# EAGLE library part ADAFRUIT_LCD_CONTROLLER (library UBCSolar)
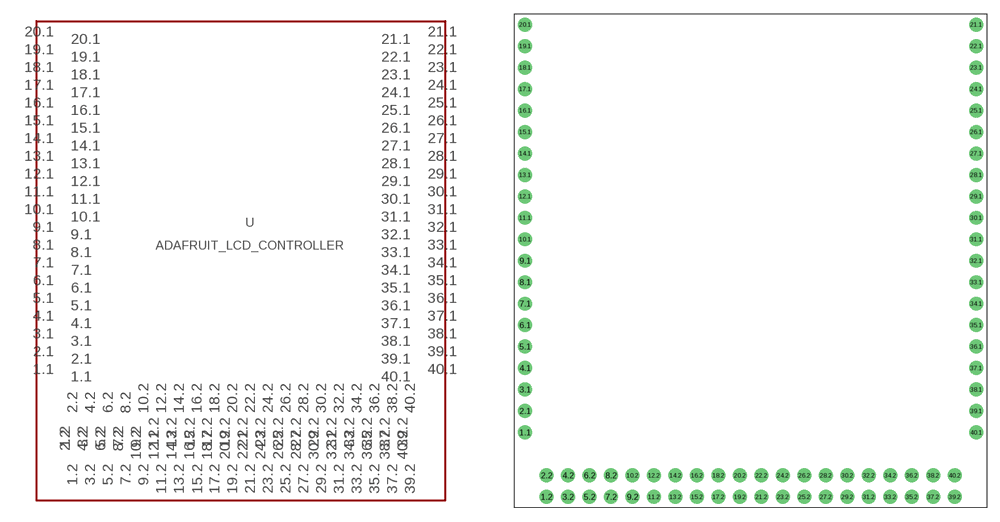
[diagram p17: symbol with the pads of ADAFRUIT_LCD_CONTROLLER; footprint ADAFRUIT_LCD_CONTROLLER]

Designator prefix -

## ADAFRUIT_LCD_CONTROLLER  [ADAFRUIT_LCD_CONTROLLER]
1.1  1.1
1.2  1.2
2.1  2.1
2.2  2.2
3.1  3.1
3.2  3.2
4.1  4.1
4.2  4.2
5.1  5.1
5.2  5.2
6.1  6.1
6.2  6.2
7.1  7.1
7.2  7.2
8.1  8.1
8.2  8.2
9.1  9.1
9.2  9.2
10.1  10.1
10.2  10.2
11.1  11.1
11.2  11.2
12.1  12.1
12.2  12.2
13.1  13.1
13.2  13.2
14.1  14.1
14.2  14.2
15.1  15.1
15.2  15.2
16.1  16.1
16.2  16.2
17.1  17.1
17.2  17.2
18.1  18.1
18.2  18.2
19.1  19.1
19.2  19.2
20.1  20.1
20.2  20.2
21.1  21.1
21.2  21.2
22.1  22.1
22.2  22.2
23.1  23.1
23.2  23.2
24.1  24.1
24.2  24.2
25.1  25.1
25.2  25.2
26.1  26.1
26.2  26.2
27.1  27.1
27.2  27.2
28.1  28.1
28.2  28.2
29.1  29.1
29.2  29.2
30.1  30.1
30.2  30.2
31.1  31.1
31.2  31.2
32.1  32.1
32.2  32.2
33.1  33.1
33.2  33.2
34.1  34.1
34.2  34.2
35.1  35.1
35.2  35.2
36.1  36.1
36.2  36.2
37.1  37.1
37.2  37.2
38.1  38.1
38.2  38.2
39.1  39.1
39.2  39.2
40.1  40.1
40.2  40.2

## Footprint ADAFRUIT_LCD_CONTROLLER (pad centres in mm)
Adafruit Ladyada's Super Lucky 40-pin FPC to Beardboard Adapter Plate https://www.adafruit.com/product/1436
drill 1.1: 1.1 -26.67,-20.32; 1.2 -24.13,-27.94; 2.1 -26.67,-17.78; 2.2 -24.13,-25.4; 3.1 -26.67,-15.24; 3.2 -21.59,-27.94; 4.1 -26.67,-12.7; 4.2 -21.59,-25.4; 5.1 -26.67,-10.16; 5.2 -19.05,-27.94; 6.1 -26.67,-7.62; 6.2 -19.05,-25.4; 7.1 -26.67,-5.08; 7.2 -16.51,-27.94; 8.1 -26.67,-2.54; 8.2 -16.51,-25.4; 9.1 -26.67,0; 9.2 -13.97,-27.94; 10.1 -26.67,2.54; 10.2 -13.97,-25.4; 11.1 -26.67,5.08; 11.2 -11.43,-27.94; 12.1 -26.67,7.62; 12.2 -11.43,-25.4; 13.1 -26.67,10.16; 13.2 -8.89,-27.94; 14.1 -26.67,12.7; 14.2 -8.89,-25.4; 15.1 -26.67,15.24; 15.2 -6.35,-27.94; 16.1 -26.67,17.78; 16.2 -6.35,-25.4; 17.1 -26.67,20.32; 17.2 -3.81,-27.94; 18.1 -26.67,22.86; 18.2 -3.81,-25.4; 19.1 -26.67,25.4; 19.2 -1.27,-27.94; 20.1 -26.67,27.94; 20.2 -1.27,-25.4; 21.1 26.67,27.94; 21.2 1.27,-27.94; 22.1 26.67,25.4; 22.2 1.27,-25.4; 23.1 26.67,22.86; 23.2 3.81,-27.94; 24.1 26.67,20.32; 24.2 3.81,-25.4; 25.1 26.67,17.78; 25.2 6.35,-27.94; 26.1 26.67,15.24; 26.2 6.35,-25.4; 27.1 26.67,12.7; 27.2 8.89,-27.94; 28.1 26.67,10.16; 28.2 8.89,-25.4; 29.1 26.67,7.62; 29.2 11.43,-27.94; 30.1 26.67,5.08; 30.2 11.43,-25.4; 31.1 26.67,2.54; 31.2 13.97,-27.94; 32.1 26.67,0; 32.2 13.97,-25.4; 33.1 26.67,-2.54; 33.2 16.51,-27.94; 34.1 26.67,-5.08; 34.2 16.51,-25.4; 35.1 26.67,-7.62; 35.2 19.05,-27.94; 36.1 26.67,-10.16; 36.2 19.05,-25.4; 37.1 26.67,-12.7; 37.2 21.59,-27.94; 38.1 26.67,-15.24; 38.2 21.59,-25.4; 39.1 26.67,-17.78; 39.2 24.13,-27.94; 40.1 26.67,-20.32; 40.2 24.13,-25.4